# EAGLE library part LAN8720_DEV (library blizzard_board)
LAN8720A Ethernet
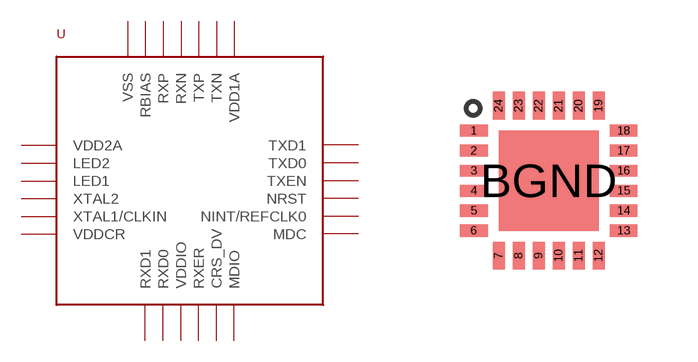
[diagram p3: symbol with the pads of QFN_24_PKG; footprint QFN_24_PKG]

Designator prefix U

## LAN8720_DEV  [QFN_24_PKG]
1  VDD2A
2  LED2
3  LED1
4  XTAL2
5  XTAL1/CLKIN
6  VDDCR
7  RXD1
8  RXD0
9  VDDIO
10  RXER
11  CRS_DV
12  MDIO
13  MDC
14  NINT/REFCLK0
15  NRST
16  TXEN
17  TXD0
18  TXD1
19  VDD1A
20  TXN
21  TXP
22  RXN
23  RXP
24  RBIAS
BGND  VSS

## Footprint QFN_24_PKG (pad centres in mm)
QFN-24
smd 0.7 x 0.3: 1 0,2.5; 2 0,2; 3 0,1.5; 4 0,1; 5 0,0.5; 6 0,0; 13 3.75,0; 14 3.75,0.5; 15 3.75,1; 16 3.75,1.5; 17 3.75,2; 18 3.75,2.5
smd 0.3 x 0.7: 7 0.625,-0.625; 8 1.125,-0.625; 9 1.625,-0.625; 10 2.125,-0.625; 11 2.625,-0.625; 12 3.125,-0.625; 19 3.125,3.125; 20 2.625,3.125; 21 2.125,3.125; 22 1.625,3.125; 23 1.125,3.125; 24 0.625,3.125
smd 2.5 x 2.5: BGND 1.875,1.25